# Altium footprint library RESAD1550W58L630D230.PcbLib: 1 footprints
Each footprint in its own frame and in the unit in brackets; x right, y up, seen from the top. Pads: shape width x height; smd on the part's side, far side on the other; paste and mask are expansions set on the pad; w line width, h text height; cw(c..) or ccw(c..) is an arc to the next point about the centre after c.
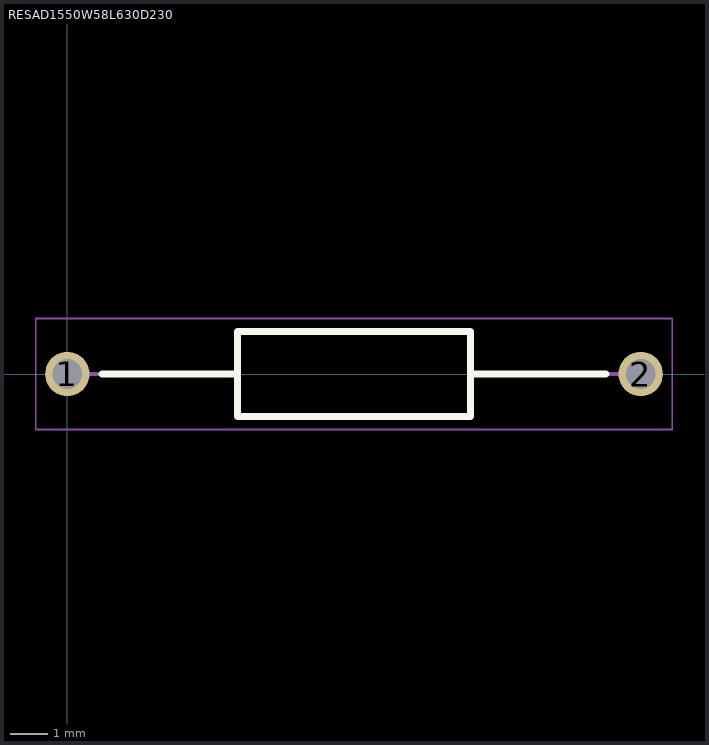
[diagram p0: the footprint, top view; thin cyan lines are the x and y axes]

## RESAD1550W58L630D230 [mm]
pads (2):
  round 1.2 hole 0.8: 1(0,0) 2(15.5,0)
L26-Silk Screen Top (Multiple PADS layers...):
  lines w0.2: 0.95,0 4.6,0 ; 10.9,0 14.55,0 ; 4.6,-1.15 10.9,-1.15 10.9,1.15 4.6,1.15 4.6,-1.15
L15 (Multiple PADS layers...):
  lines w0.1: 0,0 4.6,0 ; 10.9,0 15.5,0 ; 4.6,-1.15 10.9,-1.15 10.9,1.15 4.6,1.15 4.6,-1.15
L20:
  lines w0.05: -0.85,-1.5 16.35,-1.5 16.35,1.5 -0.85,1.5 -0.85,-1.5